# EAGLE library part TPS53819A (library firefly)
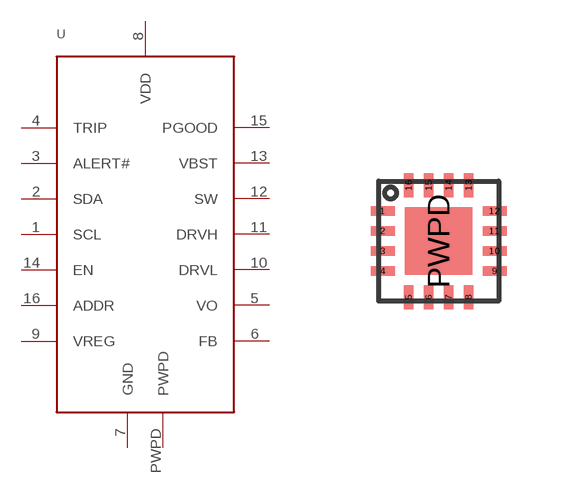
[diagram p37: symbol with the pads of QFN16; footprint QFN16]

Designator prefix -

## TPS53819A  [QFN16]
1  SCL
2  SDA
3  ALERT#
4  TRIP
5  VO
6  FB
7  GND
8  VDD
9  VREG
10  DRVL
11  DRVH
12  SW
13  VBST
14  EN
15  PGOOD
16  ADDR
PWPD  PWPD

## Footprint QFN16 (pad centres in mm)
smd 0.6 x 0.24: 1 -1.4,0.75; 2 -1.4,0.25; 3 -1.4,-0.25; 4 -1.4,-0.75; 9 1.4,-0.75; 10 1.4,-0.25; 11 1.4,0.25; 12 1.4,0.75
smd 0.24 x 0.6: 5 -0.75,-1.4; 6 -0.25,-1.4; 7 0.25,-1.4; 8 0.75,-1.4; 13 0.75,1.4; 14 0.25,1.4; 15 -0.25,1.4; 16 -0.75,1.4
smd 1.68 x 1.68: PWPD 0,0